# Altium integrated library Rosenberger Mini-Coax.IntLib: 4 symbols
Pins are listed as number, name and electrical type; pins without a type are passive.

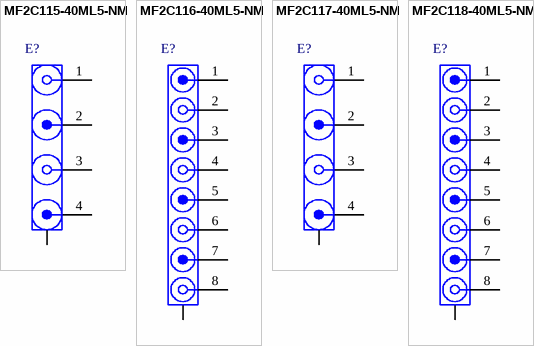
[diagram p0: symbols MF2C115-40ML5-NM to MF2C118-40ML5-NM]

## MF2C115-40ML5-NM
designator E?
Mini-Coax 4 Channel, Right Angle, Up to 2 GHz, -40 to 125 degC; PartNumber: MF2C115-40ML5-NM; Design Note: Footprint in library is a generic example - only application specific footprint delivers High Performance; DatasheetVersion: c00; PackageVersion: c00; PackageReference: MF2C115-40ML5-NM; PackageDescription: Mini-Coax Righe Angle, 12.5 x 8.6 x 4.2 mm; Mounting Technology: Through Hole; ComponentLink1Description: Manufacturer URL; ComponentLink1URL: http://www.rosenberger.de; ComponentLink2Description: Datasheet; ComponentLink2URL: http://rosenberger.de/ok/images/documents/db/MF2C115-40ML5-NM.pdf; ComponentLink3Description: Package Specification; ComponentLink3URL: http://rosenberger.de/ok/images/documents/db/MF2C115-40ML5-NM.pdf; ComponentLink4Description: Webshop / RFQ; ComponentLink4URL: http://www.rosenberger.com/en/contact/sales/
footprint ROS-MF2C115-40ML5-NM_V (Mini-Coax Right Angle, 12.5x8.6x4.2mm, Rosenberger Recommended)
pins: 1, 2, 3, 4, MP

## MF2C116-40ML5-NM
designator E?
Mini-Coax 8 Channel, Right Angle, Up to 2 GHz, -40 to 125 degC; PartNumber: MF2C116-40ML5-NM; Design Note: Footprint in library is a generic example - only application specific footprint delivers High Performance; DatasheetVersion: d00; PackageVersion: d00; PackageReference: MF2C116-40ML5-NM; PackageDescription: Mini-Coax Right Angle, 24.5 x 8.6 x 4.2 mm; Mounting Technology: Through Hole; ComponentLink1Description: Manufacturer URL; ComponentLink1URL: http://www.rosenberger.de; ComponentLink2Description: Datasheet; ComponentLink2URL: http://rosenberger.de/ok/images/documents/db/MF2C116-40ML5-NM.pdf; ComponentLink3Description: Package Specification; ComponentLink3URL: http://rosenberger.de/ok/images/documents/db/MF2C116-40ML5-NM.pdf; ComponentLink4Description: Webshop / RFQ; ComponentLink4URL: http://www.rosenberger.com/en/contact/sales/
footprint ROS-MF2C116-40ML5-NM_V (Mini-Coax Right Angle, 24.5x8.6x4.2mm, Rosenberger Recommended)
pins: 1, 2, 3, 4, 5, 6, 7, 8, MP

## MF2C117-40ML5-NM
designator E?
Mini-Coax 4 Channel, Straight, B2B Distance 7 mm, Up to 2 GHz, -40 to 125 degC; PartNumber: MF2C117-40ML5-NM; Design Note: Footprint in library is a generic example - only application specific footprint delivers High Performance; DatasheetVersion: d00; PackageVersion: d00; PackageReference: MF2C117-40ML5-NM; PackageDescription: Mini-Coax Straight, 12.7 x 4.2 x 7 mm; Mounting Technology: Through Hole; ComponentLink1Description: Manufacturer URL; ComponentLink1URL: http://www.rosenberger.de; ComponentLink2Description: Datasheet; ComponentLink2URL: http://rosenberger.de/ok/images/documents/db/MF2C117-40ML5-NM.pdf; ComponentLink3Description: Package Specification; ComponentLink3URL: http://rosenberger.de/ok/images/documents/db/MF2C117-40ML5-NM.pdf; ComponentLink4Description: Webshop / RFQ; ComponentLink4URL: http://www.rosenberger.com/en/contact/sales/
footprint ROS-MF2C117-40ML5-NM_V (Mini-Coax Straight, 12.7x4.2x7mm, Roseberger Recommended)
pins: 1, 2, 3, 4, MH

## MF2C118-40ML5-NM
designator E?
Mini-Coax 8 Channel, Straight, B2B Distance 7 mm, Up to 2 GHz, -40 to 125 degC; PartNumber: MF2C118-40ML5-NM; Design Note: Footprint in library is a generic example - only application specific footprint delivers High Performance; DatasheetVersion: c00; PackageVersion: c00; PackageReference: MF2C118-40ML5-NM; PackageDescription: Mini-Coax Straight, 24.5 x 4.2 x 7 mm; Mounting Technology: Through Hole; ComponentLink1Description: Manufacturer URL; ComponentLink1URL: http://www.rosenberger.de; ComponentLink2Description: Datasheet; ComponentLink2URL: http://rosenberger.de/ok/images/documents/db/MF2C118-40ML5-NM.pdf; ComponentLink3Description: Package Specification; ComponentLink3URL: http://rosenberger.de/ok/images/documents/db/MF2C118-40ML5-NM.pdf; ComponentLink4Description: Webshop / RFQ; ComponentLink4URL: http://www.rosenberger.com/en/contact/sales/
footprint ROS-MF2C118-40ML5-NM_V (Mini-Coax Straight, 24.5x4.2x7mm, Rosenberger Recommended)
pins: 1, 2, 3, 4, 5, 6, 7, 8, MH